# Altium footprint library Darkside_Lib.PcbLib: 49 footprints (part 2 of 4)
Each footprint in its own frame and in the unit in brackets; x right, y up, seen from the top. Pads: shape width x height; smd on the part's side, far side on the other; paste and mask are expansions set on the pad; w line width, h text height; cw(c..) or ccw(c..) is an arc to the next point about the centre after c.
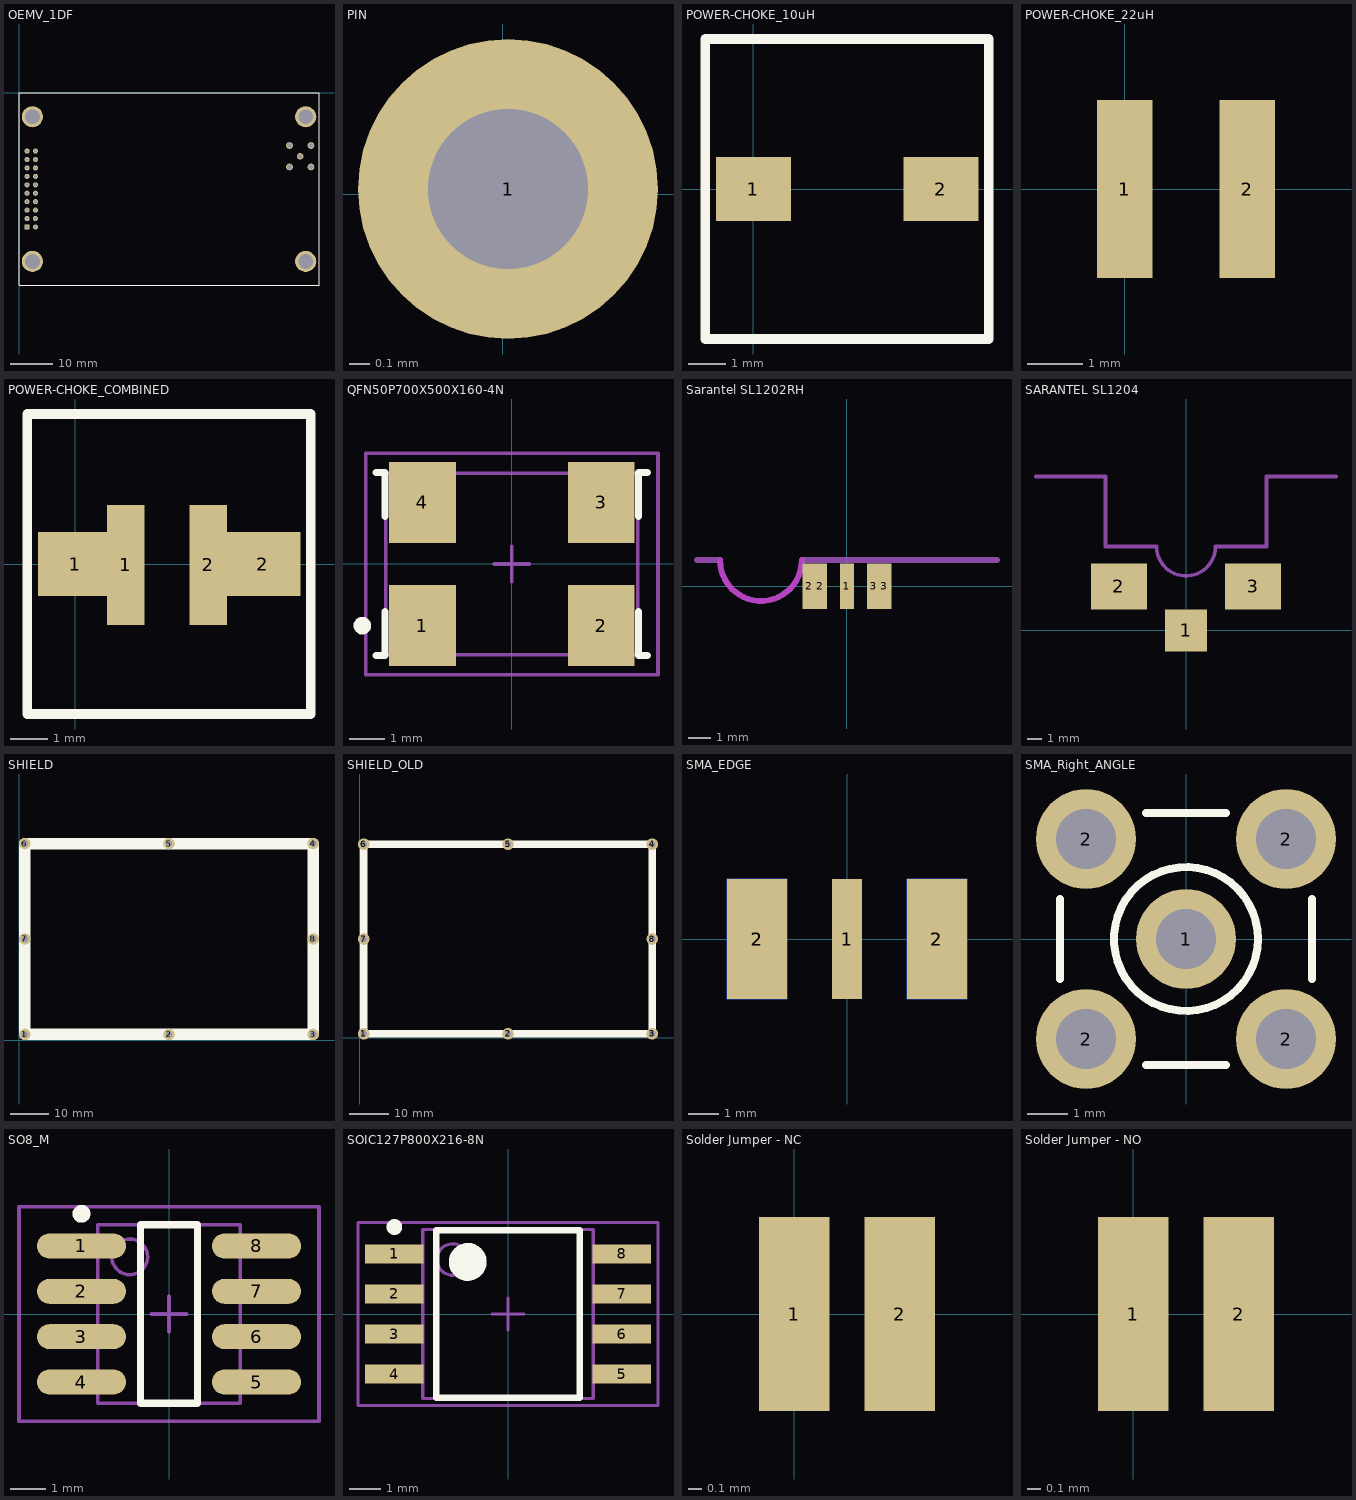
[diagram p1: the footprints below, top view; thin cyan lines are the x and y axes]

## OEMV_1DF [mm]
height 11.049
pads (29):
  rect 1.2x1.2 hole 0.762: 1(1.91,-31.86)
  round 1.2 hole 0.762: 2(3.91,-31.86) 3(1.91,-29.86) 4(3.875,-29.85) 5(1.91,-27.86) 6(3.91,-27.86) 7(1.91,-25.86) 8(3.91,-25.86) 9(1.91,-23.86) 10(3.91,-23.86) 11(1.91,-21.86) 12(3.91,-21.86) 13(1.91,-19.86) 14(3.91,-19.86) 15(1.91,-17.86) 16(3.91,-17.86) 17(1.91,-15.86) 18(3.91,-15.86) 19(1.91,-13.86) 20(3.91,-13.86)
  round 1.5 hole 1: 21(66.65,-15.09)
  round 1.6 hole 1.2: 22(64.11,-12.55) 23(69.19,-12.55) 24(69.19,-17.63) 25(64.11,-17.63)
  round 5 hole 3.5: MOUNT1(3.18,-5.72) MOUNT2(3.18,-40.01) MOUNT3(67.95,-5.72) MOUNT4(67.95,-40.01)
Top Overlay:
  lines w0.254: 0,-45.7 71.1,-45.7 71.1,0 0,0 0,-45.7
3D body: height 6.47, standoff -5.16, extent 0.9,-33.024 4.9,-12.726
3D body: height 6.5, standoff -2.79, extent 63.597,-18.073 69.591,-12.078

## PIN [mm]
pads (1):
  round 1.5 hole 0.8: 1(0.025,0.025)

## POWER-CHOKE_10uH [mm]
height 4.5
pads (2):
  rect 2x1.7 smd: 1(0,0) 2(5,0)
Top Overlay:
  lines w0.254: 6.275,3.55 6.275,4 ; 6.275,4 -1.275,4 -1.275,-4 6.275,-4 6.275,4

## POWER-CHOKE_22uH [mm]
height 1.2
pads (2):
  rect 1x3.2 smd: 1(0,0) 2(2.2,0)

## POWER-CHOKE_COMBINED [mm]
height 4.5
pads (4):
  rect 2x1.7 smd: 1(0,0) 2(5,0)
  rect 1x3.2 smd: 1(1.35,-0.025) 2(3.55,-0.025)
Top Overlay:
  lines w0.254: 6.275,3.55 6.275,4 ; 6.275,4 -1.275,4 -1.275,-4 6.275,-4 6.275,4

## QFN50P700X500X160-4N [mm] "QFN, 4-Leads, Body 5.2x7.2mm (max), Pitch 5.08mm, Pitch1 0.50mm, IPC Medium Density"
height 1.6
pads (4):
  rect 1.9x2.3 smd: 1(-2.54,-1.75) 2(2.54,-1.75) 3(2.54,1.75) 4(-2.54,1.75)
Top Overlay:
  circle w0.25: c-4.24,-1.75 r0.125
  lines w0.2: -3.85,-2.6 -3.6,-2.6 -3.6,-1.35 ; -3.85,2.6 -3.6,2.6 -3.6,1.35 ; 3.6,-1.35 3.6,-2.6 3.85,-2.6 ; 3.6,1.35 3.6,2.6 3.85,2.6
Mechanical 13:
  circle w0.1: c-2.625,1.625 r0.5
  lines w0.1: -3.575,-2.575 -3.575,2.575 3.575,2.575 3.575,-2.575 -3.575,-2.575
Mechanical 15:
  lines w0.1: -0.5,0 0.5,0 ; 0,-0.5 0,0.5 ; -4.15,-3.15 -4.15,3.15 4.15,3.15 4.15,-3.15 -4.15,-3.15
3D body: height 1.6, standoff 0.01, extent -3.575,-2.575 3.575,2.575

## Sarantel SL1202RH [mm]
pads (5):
  rect 0.6x2 smd: 1(0,0) 2(-1.651,0) 2(-1.17,0) 3(1.17,0) 3(1.651,0)
Mechanical 1:
  lines w0.254: -6.604,1.143 -5.588,1.143 ; -1.988,1.143 0,1.143 6.604,1.143
Mechanical 1 keep-out:
  lines w0.254: -5.588,1.143 ccw(c-3.788,1.143) -1.988,1.143
3D body: height 6.82, standoff -6.43, extent -6.61,-6.647 6.664,22.853

## SARANTEL SL1204 [mm]
pads (3):
  rect 3x3 smd: 1(0,0)
  rect 4x3.3 smd: 2(-4.8,3.15) 3(4.8,3.15)
Mechanical 1:
  lines w0.254: -10.717,11 -5.75,11 -5.75,6 -2.1,6 ccw(c0,6) 2.1,6 5.75,6 5.75,11 10.717,11

## SHIELD [mm]
height 15
pads (8):
  round 3 hole 1.6: 1(1.5,1.5) 2(39.05,1.5) 3(76.6,1.5) 4(76.6,51.2) 5(39.05,51.2) 6(1.5,51.2) 7(1.5,26.35) 8(76.6,26.35)
Top Overlay:
  lines w3: 1.5,50.2 1.5,1.5 76.6,1.5 76.6,50.2 ; 1.5,51.2 76.6,51.2

## SHIELD_OLD [mm]
height 15
pads (8):
  round 3 hole 1.6: 1(1,1) 2(38.05,1) 3(75.1,1) 4(75.1,49.7) 5(38.05,49.7) 6(1,49.7) 7(1,25.35) 8(75.1,25.35)
Top Overlay:
  lines w0.254: 75.075,49.725 75.1,49.7
  lines w2: 1,49.7 1,1 75.1,1 75.1,49.7 ; 1,49.725 75.075,49.725

## SMA_EDGE [mm]
pads (5):
  rect 1x4 smd: 1(0,0)
  rect 2x4 smd: 2(-3,0) 2(3,0)
  rect 2x4 smd far side: 2(-3,0) 2(3,0)

## SMA_Right_ANGLE [mm] "Connector; SMB Straight"
height 8
pads (5):
  round 2.5 hole 1.5: 1(0,0) 2(-2.5,-2.5) 2(-2.5,2.5) 2(2.5,-2.5) 2(2.5,2.5)
Top Overlay:
  circle w0.2: c0,0 r1.8
  lines w0.2: -3.15,-1 -3.15,1 ; -1,-3.15 1,-3.15 ; -1,3.15 1,3.15 ; 3.15,-1 3.15,1
Mechanical 1:
  circle w0.025: c0,0 r0.2
  circle w0.025: c0,0 r1.05
  circle w0.025: c0,0 r1.8
3D body: height 10.68, standoff -3.16, extent -3.245,-11.025 3.095,3.175

## SO8_M [mm] "SOIC, 8-Leads, Body 4.9x3.9mm, Pitch 1.27mm, IPC Low Density"
height 1.75
pads (8):
  oval 2.5x0.7 smd: 1(-2.45,1.905) 2(-2.45,0.635) 3(-2.45,-0.635) 4(-2.45,-1.905) 5(2.45,-1.905) 6(2.45,-0.635) 7(2.45,0.635) 8(2.45,1.905)
Top Overlay:
  circle w0.25: c-2.45,2.805 r0.125
  lines w0.2: -0.8,-2.5 -0.8,2.5 0.8,2.5 0.8,-2.5 -0.8,-2.5
Mechanical 13:
  circle w0.1: c-1.1,1.6 r0.5
  lines w0.1: -2,-2.5 -2,2.5 2,2.5 2,-2.5 -2,-2.5
Mechanical 15:
  lines w0.1: -0.5,0 0.5,0 ; 0,-0.5 0,0.5 ; -4.2,-3 -4.2,3 4.2,3 4.2,-3 -4.2,-3
3D body: height 1.75, standoff 0, extent -2,-2.5 2,2.5

## SOIC127P800X216-8N [mm] "SOIC, 8-Leads, Body 5.3x5.4mm (max), Pitch 1.27mm, IPC Medium Density"
height 2.16
pads (8):
  rect 1.85x0.6 smd: 1(-3.6,1.905) 2(-3.6,0.635) 3(-3.6,-0.635) 4(-3.6,-1.905) 5(3.6,-1.905) 6(3.6,-0.635) 7(3.6,0.635) 8(3.6,1.905)
Top Overlay:
  circle w0.6: c-1.275,1.65 r0.3
  circle w0.25: c-3.6,2.755 r0.125
  lines w0.2: -2.275,-2.65 2.275,-2.65 2.275,2.65 -2.275,2.65 -2.275,-2.65
Mechanical 13:
  circle w0.1: c-1.75,1.725 r0.5
  lines w0.1: -2.7,-2.675 2.7,-2.675 2.7,2.675 -2.7,2.675 -2.7,-2.675
Mechanical 15:
  lines w0.1: -0.5,0 0.5,0 ; 0,-0.5 0,0.5 ; -4.75,-2.9 4.75,-2.9 4.75,2.9 -4.75,2.9 -4.75,-2.9
3D body: height 2.16, standoff 0.05, extent -2.7,-2.675 2.7,2.675

## Solder Jumper - NC [mil]
pads (2):
  rect 20x55 smd paste+12: 1(0,0) 2(30,0)

## Solder Jumper - NO [mil]
pads (2):
  rect 20x55 smd paste+0: 1(0,0) 2(30,0)